# Altium footprint library kk.PcbLib: 30 footprints (part 1 of 2)
Each footprint in its own frame and in the unit in brackets; x right, y up, seen from the top. Pads: shape width x height; smd on the part's side, far side on the other; paste and mask are expansions set on the pad; w line width, h text height; cw(c..) or ccw(c..) is an arc to the next point about the centre after c.
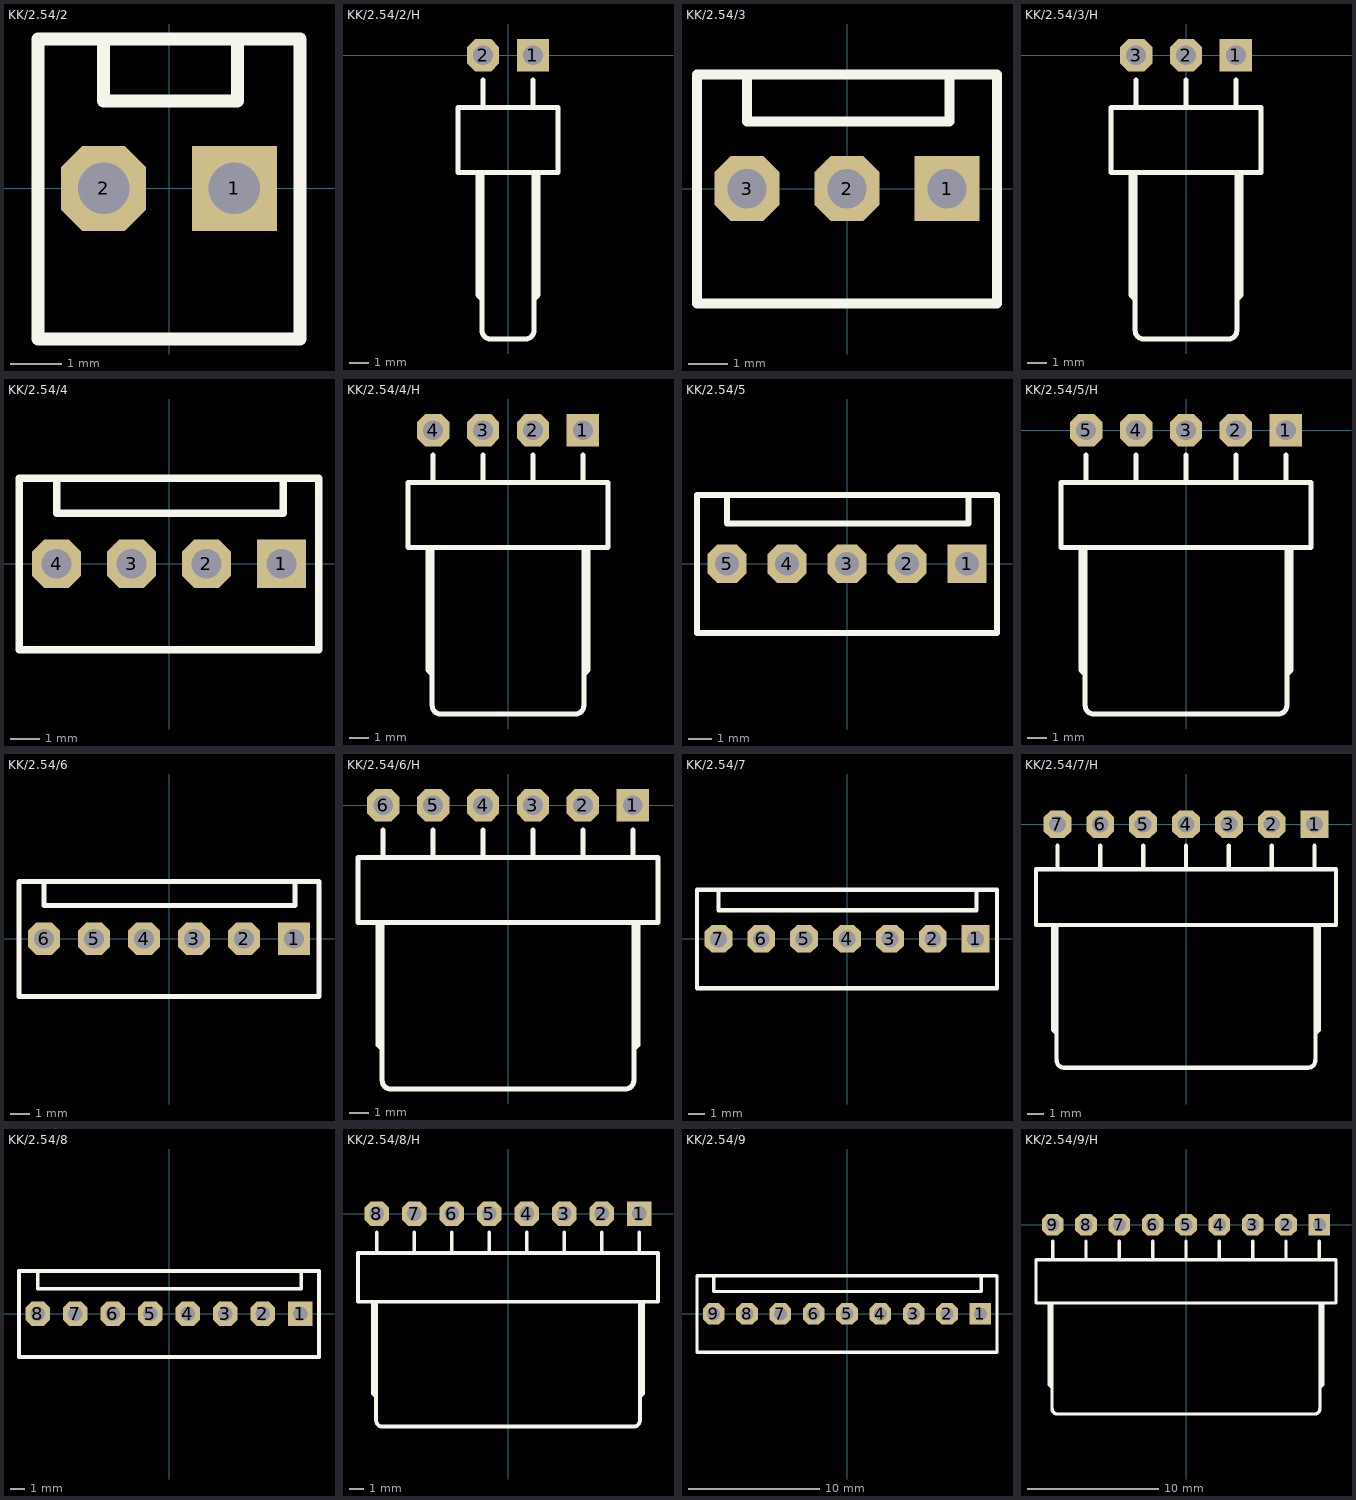
[diagram p0: the footprints below, top view; thin cyan lines are the x and y axes]

## KK/2.54/2 [mm]
pads (2):
  rect 1.65x1.65 hole 1: 1(1.27,0)
  oct 1.65x1.65 hole 1: 2(-1.27,0)
Top Overlay:
  lines w0.254: -1.27,2.9 -1.27,1.7 1.33,1.7 1.33,2.9 ; -2.54,-2.921 -2.54,2.9 2.54,2.9 2.54,-2.921 -2.54,-2.921
3D body "022272021_col.stp": height 11.72, standoff -3.54, extent -2.54,-2.92 2.54,2.88

## KK/2.54/2/H [mm]
pads (2):
  rect 1.65x1.65 hole 1: 1(1.27,0)
  oct 1.65x1.65 hole 1: 2(-1.27,0)
Top Overlay:
  lines w0.254: -1.524,-5.969 -1.524,-12.192 -1.321,-12.395 ; -1.321,-13.97 -1.321,-5.969 ; -1.315,-14.001 ccw(c-0.889,-14.001) -0.889,-14.427 0.889,-14.427 ccw(c0.889,-14.001) 1.315,-14.001 ; 1.27,-2.667 1.27,-1.27 ; 1.321,-14.021 1.321,-5.969 ; 1.321,-12.395 1.524,-12.192 1.524,-5.969 ; -2.54,-5.969 -2.54,-2.667 2.54,-2.667 2.54,-5.969 -2.54,-5.969 ; -1.27,-2.667 -1.27,-1.27 -1.27,-2.667
3D body "2pin_col.stp": height 5.87, standoff -3.77, extent -2.54,-14.433 2.54,0.305

## KK/2.54/3 [mm]
pads (3):
  rect 1.65x1.65 hole 1: 1(2.54,0)
  oct 1.65x1.65 hole 1: 2(0,0) 3(-2.54,0)
Top Overlay:
  lines w0.254: -2.54,2.9 -2.54,1.7 2.6,1.7 2.6,2.9 ; -3.81,-2.921 3.81,-2.921 3.81,2.9 -3.81,2.9 -3.81,-2.921
3D body "022272031.stp": height 11.72, standoff -3.54, extent -3.81,-2.92 3.81,2.88

## KK/2.54/3/H [mm]
pads (3):
  rect 1.65x1.65 hole 1: 1(2.54,0)
  oct 1.65x1.65 hole 1: 2(0,0) 3(-2.54,0)
Top Overlay:
  lines w0.254: -2.794,-5.969 -2.794,-12.192 -2.591,-12.395 ; -2.591,-13.97 -2.591,-5.969 ; -2.585,-14.001 ccw(c-2.159,-14.001) -2.159,-14.427 2.159,-14.427 ccw(c2.159,-14.001) 2.585,-14.001 ; 0,-2.667 0,-1.27 ; 2.54,-2.667 2.54,-1.27 ; 2.591,-14.021 2.591,-5.969 ; 2.591,-12.395 2.794,-12.192 2.794,-5.969 ; -3.81,-5.969 -3.81,-2.667 3.81,-2.667 3.81,-5.969 -3.81,-5.969 ; -2.54,-2.667 -2.54,-1.27 -2.54,-2.667
3D body "3pin.stp": height 5.87, standoff -3.77, extent -3.81,-14.433 3.81,0.305

## KK/2.54/4 [mm]
pads (4):
  rect 1.65x1.65 hole 1: 1(3.81,0)
  oct 1.65x1.65 hole 1: 2(1.27,0) 3(-1.27,0) 4(-3.81,0)
Top Overlay:
  lines w0.254: -3.81,2.9 -3.81,1.7 3.87,1.7 3.87,2.9 ; -5.08,-2.921 -5.08,2.9 5.08,2.9 5.08,-2.921 -5.08,-2.921
3D body "022272041.stp": height 11.72, standoff -3.54, extent -5.08,-2.94 5.08,2.86

## KK/2.54/4/H [mm]
height 5.8
pads (4):
  rect 1.65x1.65 hole 1: 1(3.81,-5.08)
  oct 1.65x1.65 hole 1: 2(1.27,-5.08) 3(-1.27,-5.08) 4(-3.81,-5.08)
Top Overlay:
  lines w0.254: -4.064,-11.049 -4.064,-17.272 -3.861,-17.475 ; -3.861,-19.05 -3.861,-11.049 ; -3.855,-19.081 ccw(c-3.429,-19.081) -3.429,-19.507 ; -3.81,-7.747 -3.81,-6.35 ; -3.454,-19.507 3.429,-19.507 ccw(c3.429,-19.081) 3.855,-19.081 ; -1.27,-7.747 -1.27,-6.35 ; 1.27,-7.747 1.27,-6.35 ; 3.81,-7.747 3.81,-6.35 ; 3.861,-19.101 3.861,-11.049 ; 3.861,-17.475 4.064,-17.272 4.064,-11.049 ; -5.08,-11.049 -5.08,-7.747 5.08,-7.747 5.08,-11.049 -5.08,-11.049
3D body "022057048.stp": height 5.87, standoff -3.77, extent -5.08,-19.513 5.08,-4.775

## KK/2.54/5 [mm]
pads (5):
  rect 1.65x1.65 hole 1: 1(5.08,0)
  oct 1.65x1.65 hole 1: 2(2.54,0) 3(0,0) 4(-2.54,0) 5(-5.08,0)
Top Overlay:
  lines w0.254: -5.08,2.9 -5.08,1.7 5.14,1.7 5.14,2.9 ; -6.35,-2.921 -6.35,2.9 6.35,2.9 6.35,-2.921 -6.35,-2.921
3D body "022272051.stp": height 11.72, standoff -3.54, extent -6.35,-2.92 6.35,2.88

## KK/2.54/5/H [mm]
height 5.8
pads (5):
  rect 1.65x1.65 hole 1: 1(5.08,0)
  oct 1.65x1.65 hole 1: 2(2.54,0) 3(0,0) 4(-2.54,0) 5(-5.08,0)
Top Overlay:
  lines w0.254: -5.334,-5.969 -5.334,-12.192 -5.131,-12.395 ; -5.131,-13.97 -5.131,-5.969 ; -5.125,-14.001 ccw(c-4.699,-14.001) -4.699,-14.427 4.699,-14.427 ccw(c4.699,-14.001) 5.125,-14.001 ; -5.08,-2.667 -5.08,-1.27 ; -2.54,-2.667 -2.54,-1.27 ; 0,-2.667 0,-1.27 ; 2.54,-2.667 2.54,-1.27 ; 5.08,-2.667 5.08,-1.27 ; 5.131,-14.021 5.131,-5.969 ; 5.131,-12.395 5.334,-12.192 5.334,-5.969 ; -6.35,-5.969 -6.35,-2.667 6.35,-2.667 6.35,-5.969 -6.35,-5.969
3D body "5pin.stp": height 5.87, standoff -3.77, extent -6.35,-14.433 6.35,0.305

## KK/2.54/6 [mm]
pads (6):
  rect 1.65x1.65 hole 1: 1(6.35,0)
  oct 1.65x1.65 hole 1: 2(3.81,0) 3(1.27,0) 4(-1.27,0) 5(-3.81,0) 6(-6.35,0)
Top Overlay:
  lines w0.254: -6.35,2.9 -6.35,1.7 6.41,1.7 6.41,2.9 ; -7.62,-2.921 7.62,-2.921 7.62,2.9 -7.62,2.9 -7.62,-2.921
3D body "022272061.stp": height 11.72, standoff -3.54, extent -7.62,-2.92 7.62,2.88

## KK/2.54/6/H [mm]
pads (6):
  rect 1.65x1.65 hole 1: 1(6.35,0)
  oct 1.65x1.65 hole 1: 2(3.81,0) 3(1.27,0) 4(-1.27,0) 5(-3.81,0) 6(-6.35,0)
Top Overlay:
  lines w0.254: -6.604,-5.969 -6.604,-12.192 -6.401,-12.395 ; -6.401,-13.97 -6.401,-5.969 ; -6.395,-14.001 ccw(c-5.969,-14.001) -5.969,-14.427 5.969,-14.427 ccw(c5.969,-14.001) 6.395,-14.001 ; -6.35,-2.667 -6.35,-1.27 ; -3.81,-2.667 -3.81,-1.27 ; -1.27,-2.667 -1.27,-1.27 ; 1.27,-2.667 1.27,-1.27 ; 3.81,-2.667 3.81,-1.27 ; 6.35,-2.667 6.35,-1.27 ; 6.401,-14.021 6.401,-5.969 ; 6.401,-12.395 6.604,-12.192 6.604,-5.969 ; -7.62,-5.969 -7.62,-2.667 7.62,-2.667 7.62,-5.969 -7.62,-5.969
3D body "6pin.stp": height 5.87, standoff -3.77, extent -7.62,-14.433 7.62,0.305

## KK/2.54/7 [mm]
pads (7):
  rect 1.65x1.65 hole 1: 1(7.62,0)
  oct 1.65x1.65 hole 1: 2(5.08,0) 3(2.54,0) 4(0,0) 5(-2.54,0) 6(-5.08,0) 7(-7.62,0)
Top Overlay:
  lines w0.254: -7.62,2.9 -7.62,1.7 7.68,1.7 7.68,2.9 ; -8.89,-2.921 -8.89,2.9 8.89,2.9 8.89,-2.921 -8.89,-2.921
3D body "022272071.stp": height 11.72, standoff -3.54, extent -8.89,-2.92 8.89,2.88

## KK/2.54/7/H [mm]
pads (7):
  rect 1.65x1.65 hole 1: 1(7.62,0)
  oct 1.65x1.65 hole 1: 2(5.08,0) 3(2.54,0) 4(0,0) 5(-2.54,0) 6(-5.08,0) 7(-7.62,0)
Top Overlay:
  lines w0.254: -7.874,-5.969 -7.874,-12.192 -7.671,-12.395 ; -7.671,-13.97 -7.671,-5.969 ; -7.665,-14.001 ccw(c-7.239,-14.001) -7.239,-14.427 7.239,-14.427 ccw(c7.239,-14.001) 7.665,-14.001 ; -7.62,-2.667 -7.62,-1.27 ; -5.08,-2.667 -5.08,-1.27 ; -2.54,-2.667 -2.54,-1.27 ; 0,-2.667 0,-1.27 ; 2.54,-2.667 2.54,-1.27 ; 5.08,-2.667 5.08,-1.27 ; 7.62,-2.667 7.62,-1.27 ; 7.671,-14.021 7.671,-5.969 ; 7.671,-12.395 7.874,-12.192 7.874,-5.969 ; -8.89,-5.969 -8.89,-2.667 8.89,-2.667 8.89,-5.969 -8.89,-5.969

## KK/2.54/8 [mm]
pads (8):
  rect 1.65x1.65 hole 1: 1(8.89,0)
  oct 1.65x1.65 hole 1: 2(6.35,0) 3(3.81,0) 4(1.27,0) 5(-1.27,0) 6(-3.81,0) 7(-6.35,0) 8(-8.89,0)
Top Overlay:
  lines w0.254: -8.89,2.9 -8.89,1.7 8.95,1.7 8.95,2.9 ; -10.16,-2.921 -10.16,2.9 10.16,2.9 10.16,-2.921 -10.16,-2.921
3D body "022272081.stp": height 11.72, standoff -3.54, extent -10.16,-2.92 10.16,2.88

## KK/2.54/8/H [mm]
pads (8):
  rect 1.65x1.65 hole 1: 1(8.89,0)
  oct 1.65x1.65 hole 1: 2(6.35,0) 3(3.81,0) 4(1.27,0) 5(-1.27,0) 6(-3.81,0) 7(-6.35,0) 8(-8.89,0)
Top Overlay:
  lines w0.254: -9.144,-5.969 -9.144,-12.192 -8.941,-12.395 ; -8.941,-13.97 -8.941,-5.969 ; -8.935,-14.001 ccw(c-8.509,-14.001) -8.509,-14.427 ; -8.89,-2.667 -8.89,-1.27 ; -8.458,-14.427 8.509,-14.427 ccw(c8.509,-14.001) 8.935,-14.001 ; -6.35,-2.667 -6.35,-1.27 ; -3.81,-2.667 -3.81,-1.27 ; -1.27,-2.667 -1.27,-1.27 ; 1.27,-2.667 1.27,-1.27 ; 3.81,-2.667 3.81,-1.27 ; 6.35,-2.667 6.35,-1.27 ; 8.89,-2.667 8.89,-1.27 ; 8.941,-14.021 8.941,-5.969 ; 8.941,-12.395 9.144,-12.192 9.144,-5.969 ; -10.16,-5.969 -10.16,-2.667 10.16,-2.667 10.16,-5.969 -10.16,-5.969

## KK/2.54/9 [mm]
pads (9):
  rect 1.65x1.65 hole 1: 1(10.16,0)
  oct 1.65x1.65 hole 1: 2(7.62,0) 3(5.08,0) 4(2.54,0) 5(0,0) 6(-2.54,0) 7(-5.08,0) 8(-7.62,0) 9(-10.16,0)
Top Overlay:
  lines w0.254: -10.16,2.9 -10.16,1.7 10.22,1.7 10.22,2.9 ; -11.43,-2.921 11.43,-2.921 11.43,2.9 -11.43,2.9 -11.43,-2.921
3D body "022272091.stp": height 11.72, standoff -3.54, extent -11.43,-2.92 11.43,2.88

## KK/2.54/9/H [mm]
pads (9):
  rect 1.65x1.65 hole 1: 1(10.16,0)
  oct 1.65x1.65 hole 1: 2(7.62,0) 3(5.08,0) 4(2.54,0) 5(0,0) 6(-2.54,0) 7(-5.08,0) 8(-7.62,0) 9(-10.16,0)
Top Overlay:
  lines w0.254: -10.414,-5.969 -10.414,-12.192 -10.211,-12.395 ; -10.211,-13.97 -10.211,-5.969 ; -10.205,-14.001 ccw(c-9.779,-14.001) -9.779,-14.427 9.779,-14.427 ccw(c9.779,-14.001) 10.205,-14.001 ; -10.16,-2.667 -10.16,-1.27 ; -7.62,-2.667 -7.62,-1.27 ; -5.08,-2.667 -5.08,-1.27 ; -2.54,-2.667 -2.54,-1.27 ; 0,-2.667 0,-1.27 ; 2.54,-2.667 2.54,-1.27 ; 5.08,-2.667 5.08,-1.27 ; 7.62,-2.667 7.62,-1.27 ; 10.16,-2.667 10.16,-1.27 ; 10.211,-14.021 10.211,-5.969 ; 10.211,-12.395 10.414,-12.192 10.414,-5.969 ; -11.43,-5.969 -11.43,-2.667 11.43,-2.667 11.43,-5.969 -11.43,-5.969